# Altium schematic symbol library Rocker_Switch.SchLib: 1 symbol
Pins are listed as number, name and electrical type; pins without a type are passive.

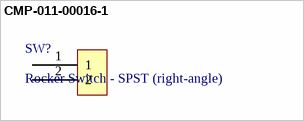
[diagram p0: symbol CMP-011-00016-1]

## CMP-011-00016-1
designator SW?, comment Rocker Switch - SPST (right-angle)
Rated up to 15A @ 125V
footprint Rocker Switch - SPST (right-angle)-Footprint-1
pins: 1, 2